# Altium footprint library Motor_Driver_HIP4082_TPH1R403_Board_V2.0.PcbLib: 1 footprints
Each footprint in its own frame and in the unit in brackets; x right, y up, seen from the top. Pads: shape width x height; smd on the part's side, far side on the other; paste and mask are expansions set on the pad; w line width, h text height; cw(c..) or ccw(c..) is an arc to the next point about the centre after c.
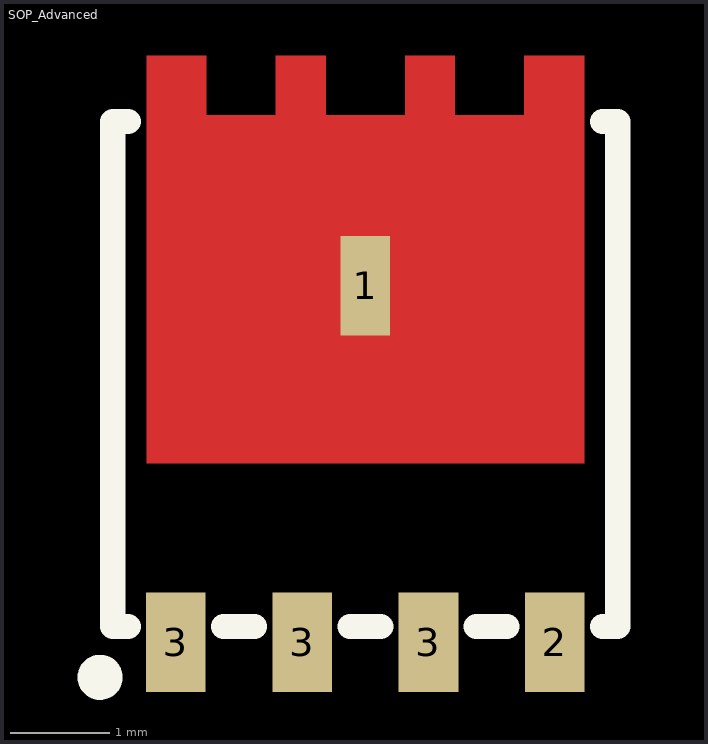
[diagram p0: the footprint, top view; thin cyan lines are the x and y axes]

## SOP_Advanced [mm]
pads (5):
  rect 0.5x1 smd: 1(-558.8,202.341)
  rect 0.6x1 smd: 2(-556.895,198.755) 3(-560.705,198.755) 3(-559.435,198.755) 3(-558.165,198.755)
Top Layer:
  region: -561,200.555 -561,204.655 -560.4,204.655 -560.4,204.055 -559.7,204.055 -559.7,204.655 -559.2,204.655 -559.2,204.055 -558.4,204.055 -558.4,204.655 -557.9,204.655 -557.9,204.055 -557.2,204.055 -557.2,204.655 -556.6,204.655 -556.6,200.555
Top Overlay:
  circle w0.254: c-561.467,198.404 r0.1
  lines w0.254: -561.185,198.915 -561.34,198.915 -561.34,203.995 -561.185,203.995 ; -560.225,198.915 -559.915,198.915 ; -558.955,198.915 -558.645,198.915 ; -557.685,198.915 -557.375,198.915 ; -556.415,198.915 -556.26,198.915 -556.26,203.995 -556.415,203.995
Top Paste:
  region: -561,200.555 -561,204.655 -560.4,204.655 -560.4,204.055 -559.7,204.055 -559.7,204.655 -559.2,204.655 -559.2,204.055 -558.4,204.055 -558.4,204.655 -557.9,204.655 -557.9,204.055 -557.2,204.055 -557.2,204.655 -556.6,204.655 -556.6,200.555
Top Solder:
  region: -561,200.555 -561,204.655 -560.4,204.655 -560.4,204.055 -559.7,204.055 -559.7,204.655 -559.2,204.655 -559.2,204.055 -558.4,204.055 -558.4,204.655 -557.9,204.655 -557.9,204.055 -557.2,204.055 -557.2,204.655 -556.6,204.655 -556.6,200.555